# EAGLE library part WE-RJ45_LAN_10/100_BASET_SMD_STD_YELLOW_GREEN (library Wuerth_Elektronik_eiSos_Version_6-12)
WE-RJ45 LAN Transformer 10/100 BaseT SMD, STD with LED - RJ45 connector with integrated transformer common mode choke - 350 µH min.OCL with 8 mA bias - Extended temperature range from 0°C to +70°C available -- ADSL Modem -- Embedded PC -- LAN network applications -- Hub, Router, Switches
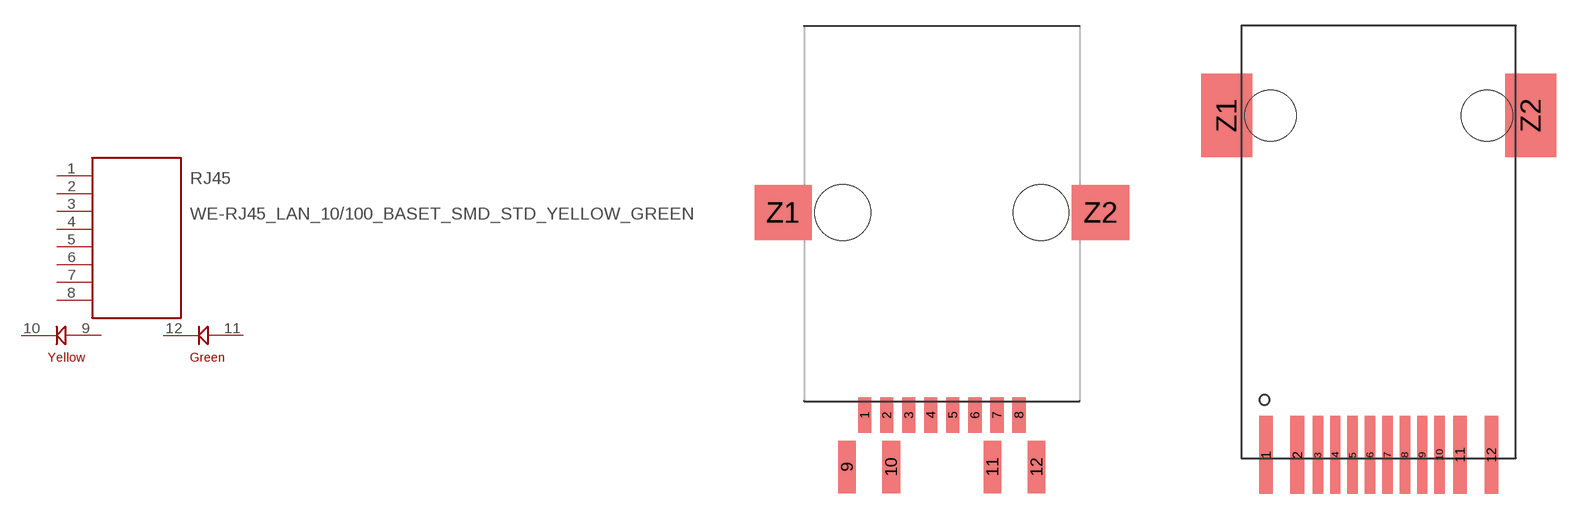
[diagram p123: symbol with the pads of WE-RJ45_LAN_10/100_BASET_7498011121; footprints WE-RJ45_LAN_10/100_BASET_7498011121, WE-RJ45_LAN_10/100_BASET_7498010210A]

Designator prefix RJ45

## WE-RJ45_LAN_10/100_BASET_SMD_STD_YELLOW_GREEN_7498011121  [WE-RJ45_LAN_10/100_BASET_7498011121]
1  1  pas
2  2  pas
3  3  pas
4  4  pas
5  5  pas
6  6  pas
7  7  pas
8  8  pas
9  9  pas
10  10  pas
11  11  pas
12  12  pas

## WE-RJ45_LAN_10/100_BASET_SMD_STD_YELLOW_GREEN_7498010210A  [WE-RJ45_LAN_10/100_BASET_7498010210A]
1  9  pas
2  10  pas
3  1  pas
4  3  pas
5  2  pas
6  5  pas
7  4  pas
8  6  pas
9  7  pas
10  8  pas
11  12  pas
12  11  pas

## Footprint WE-RJ45_LAN_10/100_BASET_7498011121 (pad centres in mm)
WE-RJ45 LAN Transformer 10/100 BaseT SMD with LED
smd 0.76 x 2.03: 1 -4.445,-11.68; 2 -3.175,-11.68; 3 -1.905,-11.68; 4 -0.635,-11.68; 5 0.635,-11.68; 6 1.905,-11.68; 7 3.175,-11.68; 8 4.445,-11.68
smd 1.02 x 3.05: 9 -5.46,-14.68; 10 -2.92,-14.68; 11 2.92,-14.68; 12 5.46,-14.68
smd 3.3 x 3.18: Z1 -9.145,0; Z2 9.145,0
hole 3.22 at -5.715,0
hole 3.22 at 5.715,0

## Footprint WE-RJ45_LAN_10/100_BASET_7498010210A (pad centres in mm)
WE-RJ45 LAN Transformer 10/100 BaseT SMD with LED
smd 0.81 x 4.6: 1 -6.61,-19.92; 2 -4.77,-19.92; 11 4.77,-19.92; 12 6.61,-19.92
smd 0.61 x 4.6: 3 -3.57,-19.92; 4 -2.55,-19.92; 5 -1.53,-19.92; 6 -0.51,-19.92; 7 0.51,-19.92; 8 1.53,-19.92; 9 2.55,-19.92; 10 3.57,-19.92
smd 3 x 4.9: Z1 -8.92,0; Z2 8.92,0
hole 3 at 6.35,0
hole 3 at -6.35,0